# EAGLE library part SC1602BS (library C8051F300)
SB1602BS LCD
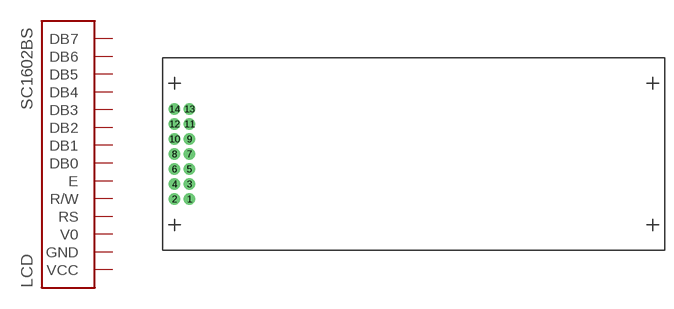
[diagram p9: symbol with the pads of SC1602BS; footprint SC1602BS]

Designator prefix LCD

## SC1602BS  [SC1602BS]
1  VCC  pwr
2  GND  pwr
3  V0  pas
4  RS
5  R/W
6  E
7  DB0
8  DB1
9  DB2
10  DB3
11  DB4
12  DB5
13  DB6
14  DB7

## Footprint SC1602BS (pad centres in mm)
drill 1.295 round: 1 2.54,-7.62; 2 0,-7.62; 3 2.54,-5.08; 4 0,-5.08; 5 2.54,-2.54; 6 0,-2.54; 7 2.54,0; 8 0,0; 9 2.54,2.54; 10 0,2.54; 11 2.54,5.08; 12 0,5.08; 13 2.54,7.62; 14 0,7.62